# EAGLE library part MINI-FIT_BMI_14 (library BlueBoard)
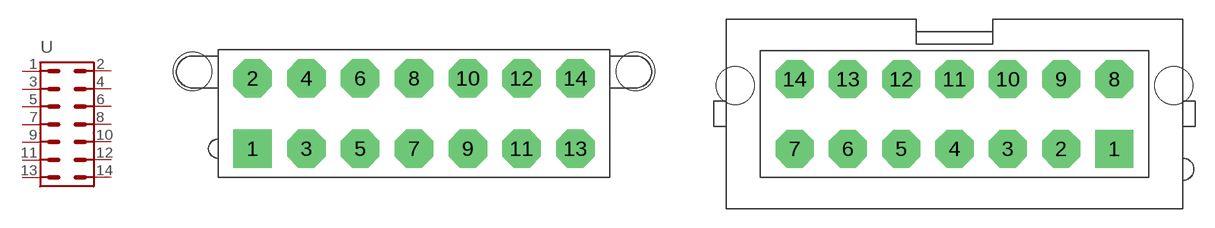
[diagram p15: symbol with the pads of MINI-FIT_BMI_HEAD_14; footprints MINI-FIT_BMI_HEAD_14, MINI-FIT_BMI_VERT_14]

Designator prefix -

## MINI-FIT_BMI_14_HEAD  [MINI-FIT_BMI_HEAD_14]
1  1
2  2
3  3
4  4
5  5
6  6
7  7
8  8
9  9
10  10
11  11
12  12
13  13
14  14

## MINI-FIT_BMI_14_VERT  [MINI-FIT_BMI_VERT_14]
Pads as for MINI-FIT_BMI_HEAD_14

## Footprint MINI-FIT_BMI_HEAD_14 (pad centres in mm)
drill 1.4 pad 3 square: 1 -12.6,-2.75
drill 1.4 pad 3 octagon: 2 -12.6,2.75; 3 -8.4,-2.75; 4 -8.4,2.75; 5 -4.2,-2.75; 6 -4.2,2.75; 7 0,-2.75; 8 0,2.75; 9 4.2,-2.75; 10 4.2,2.75; 11 8.4,-2.75; 12 8.4,2.75; 13 12.6,-2.75; 14 12.6,2.75
hole 3 at 17.3,3.31
hole 3 at -17.3,3.31

## Footprint MINI-FIT_BMI_VERT_14 (pad centres in mm)
drill 1.4 pad 3 square: 1 12.6,-2.75
drill 1.4 pad 3 octagon: 2 8.4,-2.75; 3 4.2,-2.75; 4 0,-2.75; 5 -4.2,-2.75; 6 -8.4,-2.75; 7 -12.6,-2.75; 8 12.6,2.75; 9 8.4,2.75; 10 4.2,2.75; 11 0,2.75; 12 -4.2,2.75; 13 -8.4,2.75; 14 -12.6,2.75
hole 3 at 17.3,2.25
hole 3 at -17.3,2.25